# Altium footprint library TRANSISTOR.PcbLib: 4 footprints
Each footprint in its own frame and in the unit in brackets; x right, y up, seen from the top. Pads: shape width x height; smd on the part's side, far side on the other; paste and mask are expansions set on the pad; w line width, h text height; cw(c..) or ccw(c..) is an arc to the next point about the centre after c.
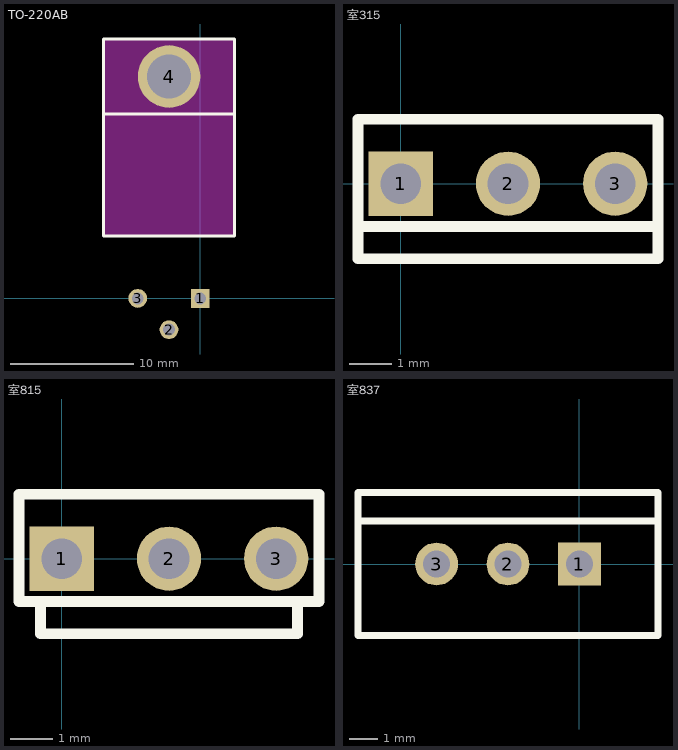
[diagram p0: the footprints below, top view; thin cyan lines are the x and y axes]

## TO-220AB [mil]
pads (4):
  rect 60x60 hole 38: 1(0,0)
  round 60 hole 38: 2(-100,-100) 3(-200,0)
  round 200 hole 140: 4(-100,710)
Top Overlay:
  lines w10: -310,590 110,590 ; -310,200 110,200 110,830 -310,830 -310,200
Multi-Layer keep-out:
  region: -310,200 110,200 110,830 -310,830

## 室315 [mil]
pads (3):
  rect 60x60 hole 38: 1(0,0)
  round 60 hole 38: 2(100,0) 3(200,0)
Top Overlay:
  lines w10: -40,-40 240,-40 ; -40,-70 240,-70 240,60 -40,60 -40,-70

## 室815 [mil]
pads (3):
  rect 60x60 hole 38: 1(0,0)
  round 60 hole 38: 2(100,0) 3(200,0)
Top Overlay:
  lines w10: -20,-40 -20,-70 220,-70 220,-40 ; -40,-40 240,-40 240,60 -40,60 -40,-40

## 室837 [mil]
pads (3):
  rect 60x60 hole 38: 1(0,0)
  round 60 hole 38: 2(-100,0) 3(-200,0)
Top Overlay:
  lines w10: -310,60 110,60 ; -310,-100 110,-100 110,100 -310,100 -310,-100